# EAGLE library part ATTINY404 (library processors)
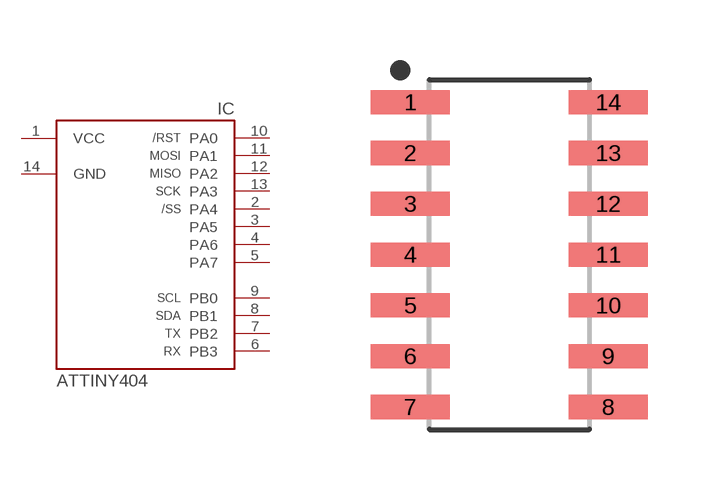
[diagram p4: symbol with the pads of SOIC127P600X175-14; footprint SOIC127P600X175-14]

Designator prefix IC

## ATTINY404  [SOIC127P600X175-14]
1  VCC
2  PA4
3  PA5
4  PA6
5  PA7
6  PB3
7  PB2
8  PB1
9  PB0
10  PA0
11  PA1
12  PA2
13  PA3
14  GND

## Footprint SOIC127P600X175-14 (pad centres in mm)
14-SOIC, 1.27 mm pitch, 6.00 mm span, 8.65 X 3.90 X 1.75 mm body 14-pin SOIC package with 1.27 mm pitch, 6.00 mm span with body size 8.65 X 3.90 X 1.75 mm
smd 1.968 x 0.602: 1 -2.473,3.81; 2 -2.473,2.54; 3 -2.473,1.27; 4 -2.473,0; 5 -2.473,-1.27; 6 -2.473,-2.54; 7 -2.473,-3.81; 8 2.473,-3.81; 9 2.473,-2.54; 10 2.473,-1.27; 11 2.473,0; 12 2.473,1.27; 13 2.473,2.54; 14 2.473,3.81